# EAGLE library part USB_MINI_B (library harrison)
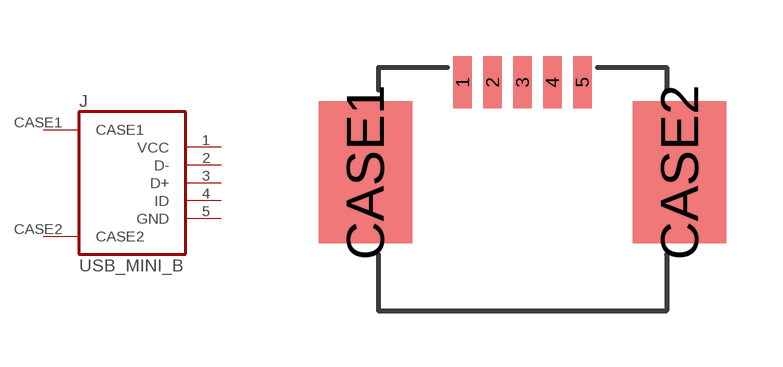
[diagram p49: symbol with the pads of UX60SC-MD-5ST; footprint UX60SC-MD-5ST]

Designator prefix J

## USB_MINI_B  [UX60SC-MD-5ST]
1  VCC  pwr
2  D-
3  D+
4  ID  in
5  GND  pwr
CASE1  CASE1  pas
CASE2  CASE2  pas

## Footprint UX60SC-MD-5ST (pad centres in mm)
smd 0.5 x 1.4: 1 -1.6,2.6; 2 -0.8,2.6; 3 0,2.6; 4 0.8,2.6; 5 1.6,2.6
smd 2.5 x 3.8: CASE1 -4.2,0.2; CASE2 4.2,0.2